# EAGLE library part SI8600_DUALCHANNELISO (library lolomolo)
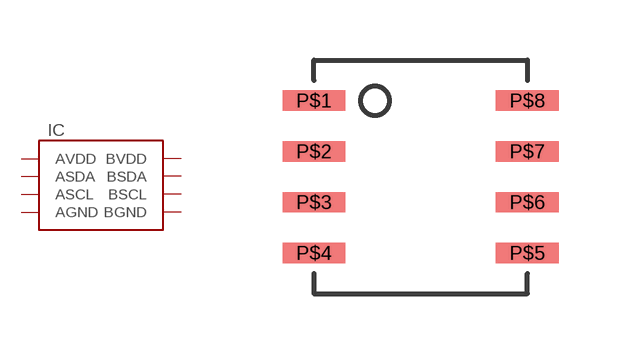
[diagram p9: symbol with the pads of SOIC-8; footprint SOIC-8]

Designator prefix IC

## SI8600_DUALCHANNELISO  [SOIC-8]
P$1  AVDD
P$2  ASDA
P$3  ASCL
P$4  AGND
P$5  BGND
P$6  BSCL
P$7  BSDA
P$8  BVDD

## Footprint SOIC-8 (pad centres in mm)
smd 1.575 x 0.508: P$1 0,3.81; P$2 0,2.54; P$3 0,1.27; P$4 0,0; P$5 5.334,0; P$6 5.334,1.27; P$7 5.334,2.54; P$8 5.334,3.81